# EAGLE library part 1X6(HEADER,2.5MM) (library Cycfi)
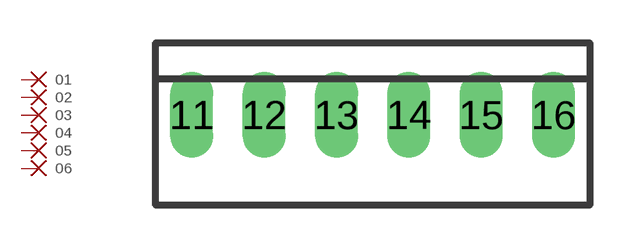
[diagram p1: symbol with the pads of 1X6(2.5MM,PITCH); footprint 1X6(2.5MM,PITCH)]

Designator prefix -

## 1X6(HEADER,2.5MM)  [1X6(2.5MM,PITCH)]
11  01  pas
12  02  pas
13  03  pas
14  04  pas
15  05  pas
16  06  pas

## Footprint 1X6(2.5MM,PITCH) (pad centres in mm)
drill 1 long: 11 -6.35,0; 12 -3.81,0; 13 -1.27,0; 14 1.27,0; 15 3.81,0; 16 6.35,0